# EAGLE library part SHT21 (library SHT21)
Check availability <https://pricing.snapeda.com/parts/SHT21/Sensirion%20AG/view-part?ref=eda>
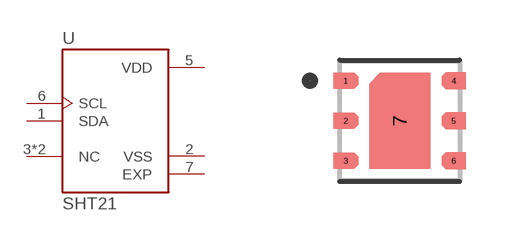
[diagram p0: symbol with the pads of XDCR_SHT21; footprint XDCR_SHT21]

Designator prefix U

## SHT21 (Availability: In Stock; Check_prices: https://www.snapeda.com/parts/SHT21/Sensirion+AG/view-part/?ref=eda; Description: SENSOR HUMID/TEMP 3V I2C 2% SMD; MF: Sensirion AG; MP: SHT21; Package: DFN-6 Sensirion; Price: None; Purchase-URL: https://www.snapeda.com/api/url_track_click_mouser/?unipart_id=46060&manufacturer=Sensirion AG&part_name=SHT21&search_term=None; SnapEDA_Link: https://www.snapeda.com/parts/SHT21/Sensirion+AG/view-part/?ref=snap)  [XDCR_SHT21]
1  SDA
2  VSS  pwr
3  NC  nc
4  NC  nc
5  VDD  pwr
6  SCL  in
7  EXP  pas

## Footprint XDCR_SHT21 (pad centres in mm)
smd 0.3 x 0.2: 1 -1.35,1; 2 -1.35,0; 3 -1.35,-1; 4 1.35,1; 5 1.35,0; 6 1.35,-1
smd 0.5 x 1: 7 0,0